# EAGLE library part WTYK4 (library mechanika)
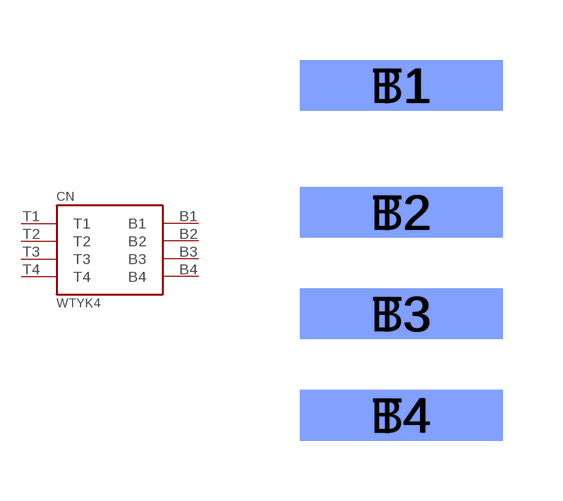
[diagram p0: symbol with the pads of WTYK; footprint WTYK]

Designator prefix CN

## WTYK4  [WTYK]
B1  B1
B2  B2
B3  B3
B4  B4
T1  T1
T2  T2
T3  T3
T4  T4

## Footprint WTYK (pad centres in mm)
smd 5.08 x 1.27 bottom: B1 0,4.445; B2 0,1.27; B3 0,-1.27; B4 0,-3.81
smd 5.08 x 1.27: T1 0,4.445; T2 0,1.27; T3 0,-1.27; T4 0,-3.81